# Altium schematic symbol library AMA4B_adapter_board.SCHLIB: 103 symbols (part 1 of 3)
Pins are listed as number, name and electrical type; pins without a type are passive.

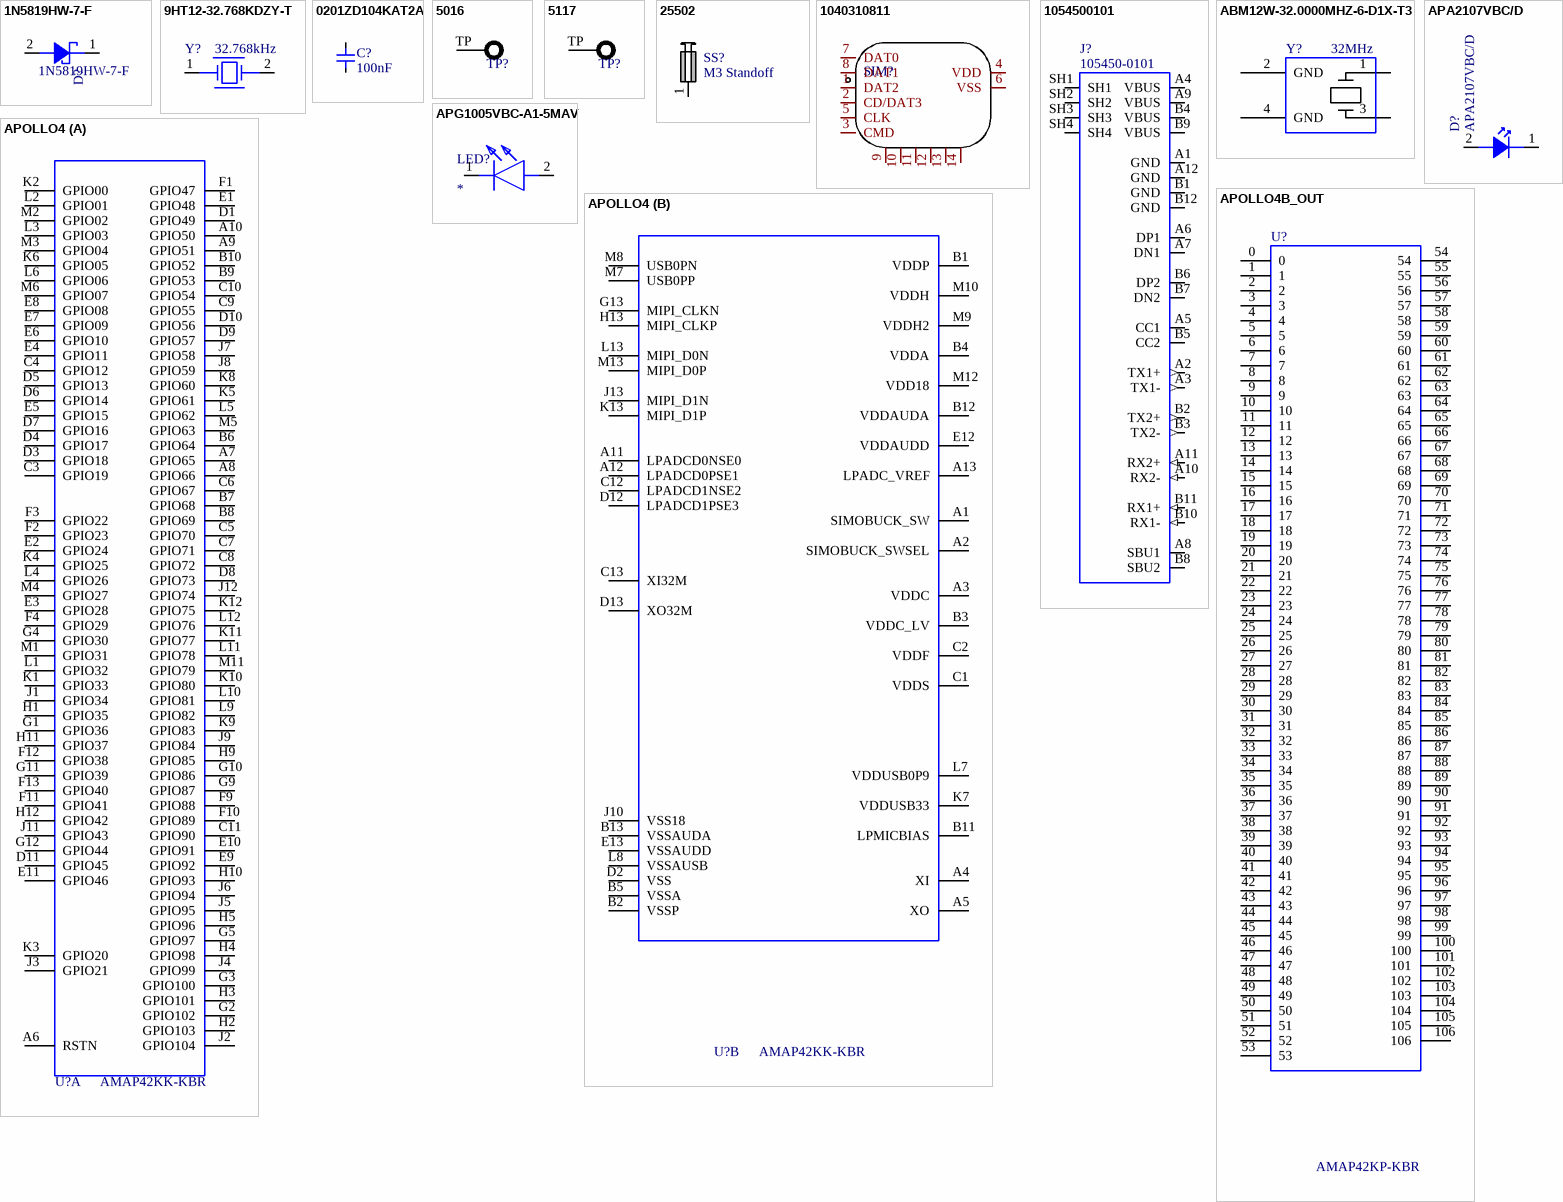
[diagram p0: symbols 1N5819HW-7-F to APOLLO4B_OUT]

## 1N5819HW-7-F
designator D?, comment AMBIQ PN: 1N5819HW-7-F  (hidden comment: Schottky)
None; Manufacturer: Diodes; Forward Current: 1A; Max Repetitive Reverse Voltage (Vrrm): 40V; Forward Voltage: 450mV; Max Reverse Current: 50uA; Element Configuration: Single; Max Forward Surge Current (Ifsm): 25A; Max Power Dissipation: 450mW; Polarity: Standard; Capacitance: 110pF; Supplier 1: RSComponents; Supplier Part Number 1: 7082197; Manufacturer Part Number: 1N5819HW-7-F; RoHS: Yes; Category: Schottky Diodes; Stock 1: 100; Pricing 1: 25=0.32800, 150=0.18600, 750=0.12400, 1500=0.09400 (GBP); Case/Package: SOD-123-2; Number of Pins: 2; Weight: 0.000353oz; Contact Plating: Tin,Matte; Min Operating Temperature: -65°C; Max Operating Temperature: 125°C; Packaging: Tape and Reel; Peak Non-Repetitive Surge Current: 25A; Package Quantity: 3000; Average Rectified Current: 1A; Termination: SMD/SMT; Voltage Rating (DC): 40V; Current Rating: 1A; Output Current: 1A; Max Reverse Voltage (DC): 40V; Series: -; Length: 2.85mm; Width: 1.7mm; Height: 1.25mm; Radiation Hardening: No; RoHS Compliant: Yes; REACH SVHC: No SVHC; Lead Free: Lead Free; ComponentLink1URL: https://datasheet.ciiva.com/27092/1538419-27092484.pdf?src-supplier=Jameco; ComponentLink1Description: https://datasheet.ciiva.com/27092/1538419-27092484.pdf?src-supplier=Jameco
footprint SOD123_112X67
pins: 1 C, 2 A

## 9HT12-32.768KDZY-T
designator Y?, comment 32.768kHz
NONE; Manufacturer: TXC; AMBIQ PN: 9HT12-32.768KDZY-T; Load Capacitance: 7pF; ESR (Equivalent Series Resistance): 90kR; Frequency Tolerance: 20ppm; Supplier 1: Newark; Supplier Part Number 1: 45AC5777; Manufacturer Part Number: 9HT12-32.768KDZY-T; RoHS: Yes; Category: Crystals; Stock 1: 2496; Pricing 1: 1=1.39000, 10=1.33000, 25=1.26000, 50=1.19000, 100=1.12000 (USD); Mount: Surface Mount; Case/Package: SMD/SMT; Min Operating Temperature: -40°C; Max Operating Temperature: 85°C; Packaging: Tape and Reel; Frequency: 32.768kHz; Length: 0.063inch; Width: 0.039inch; Height: 0.02inch; Lead Free: Lead Free; ComponentLink1URL: http://www.txccrystal.com/images/pdf/number-crystal-khz.pdf?src-supplier=Digi-Key; ComponentLink1Description: http://www.txccrystal.com/images/pdf/number-crystal-khz.pdf?src-supplier=Digi-Key; ComponentLink2URL: http://www.txccrystal.com/images/pdf/9ht12.pdf?src-supplier=Digi-Key; ComponentLink2Description: http://www.txccrystal.com/images/pdf/9ht12.pdf?src-supplier=Digi-Key
footprint XTAL2-1P6X1P0-SM
pins: 1, 2

## 0201ZD104KAT2A
designator C?, comment 100nF
NONE; Manufacturer: Kyocera AVX; AMBIQ PN: 0201ZD104KAT2A; Tolerance: 10%; Voltage Rating: 10V; Supplier 1: Arrow Electronics; Supplier Part Number 1: 0201ZD104KAT2A; Manufacturer Part Number: 0201ZD104KAT2A; RoHS: Yes; Category: Ceramic Capacitors; Stock 1: 105000; Pricing 1: 15000=0.00770, 30000=0.00750, 45000=0.00740, 60000=0.00720, 75000=0.00690, 150000=0.00620 (USD); Mount: Surface Mount; Case/Package: 0201; Case Code (Metric): 0603; Case Code (Imperial): 0201; Min Operating Temperature: -55°C; Max Operating Temperature: 85°C; Capacitance: 100nF; Packaging: Tape and Reel; Voltage Rating (DC): 10V; Series: -; Lead Free: Lead Free; RoHS Compliant: Yes; ComponentLink1URL: http://www.mouser.com/ds/2/40/cx5r-776519.pdf?src-supplier=Mouser; ComponentLink1Description: http://www.mouser.com/ds/2/40/cx5r-776519.pdf?src-supplier=Mouser
footprint IPC_A
footprint IPC_B
footprint IPC_C
footprint MFG
pins: 1, 2

## 5016
designator TP?, comment HOOK  (value not drawn)
None; Manufacturer: Keystone Electronics; AMBIQ PN: 5016; Number of Ports: 1; Supplier 1: Newark; Supplier Part Number 1: 57J1845; Manufacturer Part Number: 5016; RoHS: Yes; Category: Connectors; Stock 1: 35000; Pricing 1: 1=0.15400, 1000=0.15300, 2000=0.14700, 4000=0.14100, 6000=0.13500 (USD); Mount: Surface Mount; Material: Bronze,Silver; Package Quantity: 1; Series: -; ComponentLink1URL: https://datasheet.ciiva.com/6737/5016-6737476.pdf?src-supplier=Newark; ComponentLink1Description: https://datasheet.ciiva.com/6737/5016-6737476.pdf?src-supplier=Newark; Contact Material: Bronze; Contact Plating: Silver; Color: White; Insulation Material: Polycarbonate; Packaging: Tape and Reel; Termination: Solder; Orientation: Straight; Length: 3.81mm; Height: 0.09inch; Depth: 2.48mm; RoHS Compliant: Yes; REACH SVHC: No SVHC; Lead Free: Lead Free; ComponentLink2URL: https://datasheet.ciiva.com/4598/m60p61-29490-4598593.pdf?src-supplier=Mouser; ComponentLink2Description: https://datasheet.ciiva.com/4598/m60p61-29490-4598593.pdf?src-supplier=Mouser; ComponentLink3URL: https://datasheet.ciiva.com/16311/m60-2p61-16311518.pdf?src-supplier=Future+Electronics; ComponentLink3Description: https://datasheet.ciiva.com/16311/m60-2p61-16311518.pdf?src-supplier=Future+Electronics; ComponentLink4URL: https://datasheet.ciiva.com/16884/70182998-16884102.pdf?src-supplier=Allied+Electronics; ComponentLink4Description: https://datasheet.ciiva.com/16884/70182998-16884102.pdf?src-supplier=Allied+Electronics; ComponentLink5URL: https://datasheet.ciiva.com/2917/5016-2917611.pdf?src-supplier=Digi-Key; ComponentLink5Description: https://datasheet.ciiva.com/2917/5016-2917611.pdf?src-supplier=Digi-Key; ComponentLink6URL: https://datasheet.ciiva.com/2917/5016-2917612.pdf?src-supplier=Digi-Key; ComponentLink6Description: https://datasheet.ciiva.com/2917/5016-2917612.pdf?src-supplier=Digi-Key; ComponentLink7URL: https://datasheet.ciiva.com/2917/5016-2917613.pdf?src-supplier=Digi-Key; ComponentLink7Description: https://datasheet.ciiva.com/2917/5016-2917613.pdf?src-supplier=Digi-Key
footprint TP5016_4.7x3.43
pins: TP

## 5117
designator TP?, comment Blue Ring  (value not drawn)
None; Manufacturer: Keystone Electronics; AMBIQ PN: 5117; Body Material: PBT; Supplier 1: Newark; Supplier Part Number 1: 95M2479; Manufacturer Part Number: 5117; RoHS: Yes; Category: Uncategorized; Stock 1: 8464; Pricing 1: 1=0.37200, 10=0.35700, 100=0.26000, 500=0.22900, 1000=0.19700, 2500=0.18400, 10000=0.15500 (USD); Mount: Through Hole,PCB; Material: Nylon,Bronze; Package Quantity: 100; Series: THM; ComponentLink1URL: https://datasheet.ciiva.com/2917/m60-2p60-2917660.pdf?src-supplier=Digi-Key; ComponentLink1Description: https://datasheet.ciiva.com/2917/m60-2p60-2917660.pdf?src-supplier=Digi-Key; Contact Material: Bronze; Contact Plating: Silver; Color: Blue; Packaging: Bulk; Height: 0.3inch; RoHS Compliant: Yes; REACH SVHC: No SVHC; Lead Free: Lead Free; ComponentLink2URL: https://datasheet.ciiva.com/16886/70182825-16886140.pdf?src-supplier=Allied+Electronics; ComponentLink2Description: https://datasheet.ciiva.com/16886/70182825-16886140.pdf?src-supplier=Allied+Electronics; Flammability Rating: UL94 V-0; Number of Pins: 1
footprint 5117
pins: TP

## 25502
designator SS?, comment M3 Standoff
None; Manufacturer: Keystone Electronics; AMBIQ PN: 25502; Gender: Male, Female; Threaded/Unthreaded: Threaded; Outside Diameter: 0.217inch; Supplier 1: Future Electronics; Supplier Part Number 1: 5068490; Manufacturer Part Number: 25502; RoHS: Yes; Category: Spacers, Standoffs; Stock 1: 439; Pricing 1: 100=0.38000, 400=0.32500, 1500=0.31500, 2500=0.31000, 5000=0.30500 (USD); Material: Nylon; Package Quantity: 100; Series: -; Thread Size: M3; ComponentLink1URL: http://www.keyelco.com/pdfs/M60/M60p72.pdf?src-supplier=Digi-Key; ComponentLink1Description: http://www.keyelco.com/pdfs/M60/M60p72.pdf?src-supplier=Digi-Key; Color: Natural; Length: 0.787inch; Lead Free: Lead Free; ComponentLink2URL: http://www.keyelco.com/product-pdf.cfm?p=4539&src-supplier=Digi-Key; ComponentLink2Description: http://www.keyelco.com/product-pdf.cfm?p=4539&src-supplier=Digi-Key; ComponentLink3URL: http://www.keyelco.com/product.cfm/M3-x-5-0mm-Metric-Thread/25502/product_id/4540?src-supplier=Mouser; ComponentLink3Description: http://www.keyelco.com/product.cfm/M3-x-5-0mm-Metric-Thread/25502/product_id/4540?src-supplier=Mouser; Size: 0.197inch
footprint 25502
pins: 1

## 1040310811
designator SIM?  (value not drawn)
Manufacturer: MOLEX; Add into BOM: yes; Card Connection Mode: 拔插式; Card Type: MicroSD卡(TF卡); Connector Type: 卡座; Maximum Body Height: 1.42mm; Name: 1040310811; Symbol: 1040310811; Device: 1040310811; LCSC Part Name: 拔插式 MicroSD卡(TF卡) 卡座; Supplier Part: C585350; Manufacturer Part: 1040310811; Supplier Footprint: SMD; JLCPCB Part Class: 扩展库; Datasheet: https://atta.szlcsc.com/upload/public/pdf/source/20201117/C585350_D1F0B30BD23514449186B2E50ACE8BBF.pdf; Supplier: LCSC; Convert to PCB: yes; Operating Temperature Range: -
footprint SIM-SMD_8P-1040310811
pins: 1 DAT2, 2 CD/DAT3, 3 CMD, 4 VDD, 5 CLK, 6 VSS, 7 DAT0, 8 DAT1, 9, 10, 11, 12, 13, 14

## 1054500101
designator J?, comment 105450-0101
NONE; Manufacturer: Molex; AMBIQ PN: 1054500101; Number of Terminals/Pins: 24; Connector Type: USB; Gender: Receptacle; Number of Ports: 1; USB Standard: USB 3.1; Current Rating: 5A; Mating Cycles: 10000; Shielding: Shielded; Pitch: 0.5mm; Supplier 1: Arrow Electronics; Supplier Part Number 1: 105450-0101; Manufacturer Part Number: 105450-0101; RoHS: Yes; Category: USB Connectors; Stock 1: 534; Pricing 1: 1=2.15670, 10=1.78070, 25=1.76290, 100=1.52500, 250=1.50710, 500=1.41880 (USD); Mount: Surface Mount,Through Hole,Horizontal; Case/Package: 0101; Number of Pins: 24; Contact Material: Copper Alloy; Contact Plating: Gold; Housing Material: Thermoplastic; Insulation Color: Black; Min Operating Temperature: -30°C; Max Operating Temperature: 85°C; Packaging: Tape and Reel; Number of Contacts: 24; Orientation: Right Angle; Termination: Solder; Features: Shielded; Length: 8.94mm; REACH SVHC: Unknown; Flammability Rating: UL94 V-0; RoHS Compliant: Yes; ComponentLink1URL: http://www.farnell.com/datasheets/2801634.pdf?src-supplier=Farnell; ComponentLink1Description: http://www.farnell.com/datasheets/2801634.pdf?src-supplier=Farnell
footprint CON24_C_USB_RA_TH
pins: A1 GND (power), A2 TX1+ (out), A3 TX1- (out), A4 VBUS (power), A5 CC1, A6 DP1 (io), A7 DN1 (io), A8 SBU1, A9 VBUS (power), A10 RX2- (in), A11 RX2+ (in), A12 GND (power), B1 GND (power), B2 TX2+ (out), B3 TX2- (out), B4 VBUS (power), B5 CC2, B6 DP2 (io), B7 DN2 (io), B8 SBU2, B9 VBUS (power), B10 RX1- (in), B11 RX1+ (in), B12 GND (power), SH1 (power), SH2 (power), SH3 (power), SH4 (power)

## ABM12W-32.0000MHZ-6-D1X-T3
designator Y?, comment 32MHz
NONE; Manufacturer: Abracon; AMBIQ PN: ABM12W-32.0000MHZ-6-D1X-T3; Load Capacitance: 6pF; ESR (Equivalent Series Resistance): 100R; Frequency Tolerance: 10ppm; Frequency Stability: 20ppm; Supplier 1: Mouser; Supplier Part Number 1: 815-12W32-6D1XT; Manufacturer Part Number: ABM12W-32.0000MHZ-6-D1X-T3; RoHS: Yes; Category: Crystals; Stock 1: 2341; Pricing 1: 1=0.99000, 10=0.88400, 50=0.88400, 100=0.73000, 1000=0.57600, 10000=0.53700 (USD); Mount: Surface Mount; Case/Package: SMD/SMT; Min Operating Temperature: -40°C; Max Operating Temperature: 85°C; Packaging: Tape and Reel; Frequency: 32MHz; ComponentLink1URL: https://abracon.com/Resonators/ABM12W.pdf?src-supplier=Digi-Key; ComponentLink1Description: https://abracon.com/Resonators/ABM12W.pdf?src-supplier=Digi-Key; RoHS Compliant: Yes
footprint XOSC_ABM12W_1.2x1.6
pins: 1, 2 GND, 3, 4 GND

## APA2107VBC/D
designator D?
None; Manufacturer: Kingbright; Forward Voltage: 3.3V; Color: Blue; Lens Color: Colorless; Luminous Intensity: 200mcd; Viewing Angle: 120°; Lens Style: Domed; Lens Transparency: Clear; Test Current: 20mA; Dominant Wavelength: 470nm; Lens Size: 0.6mm; AMBIQ PN: APA2107VBC/D; Supplier 1: Digi-Key; Supplier Part Number 1: 754-2102-1-ND; Manufacturer Part Number: APA2107VBC/D; RoHS: Yes; Category: LEDs; Stock 1: 6712; Pricing 1: 1=0.61000, 10=0.37500, 100=0.21560, 1000=0.16871 (USD); Case/Package: SMD/SMT; Packaging: Tape and Reel; Length: 2.1mm; Width: 1mm; Height: 0.7mm; RoHS Compliant: Yes; ComponentLink1URL: http://www.kingbrightusa.com/images/catalog/SPEC/APA2107VBC-D.pdf?src-supplier=Digi-Key; ComponentLink1Description: http://www.kingbrightusa.com/images/catalog/SPEC/APA2107VBC-D.pdf?src-supplier=Digi-Key; Mount: Surface Mount
footprint 2106_LED_RA
pins: 1 C, 2 A

## APG1005VBC-A1-5MAV
designator LED?
LED; Manufacturer_Name: Kingbright; Manufacturer_Part_Number: APG1005VBC-A1-5MAV; Datasheet Link: https://www.kingbrightusa.com/images/catalog/SPEC/APG1005VBC-A1-5MAV.pdf; Height: 0.25mm; Mouser Part Number: 604-APG1005VBCA15MAV; Mouser Price/Stock: https://www.mouser.co.uk/ProductDetail/Kingbright/APG1005VBC-A1-5MAV?qs=Wj%2FVkw3K%252BMBzMdKeIeaEww%3D%3D
footprint APG1005VBCA15MAV
pins: 1 K, 2 A

## APOLLO4
designator U?, comment AMAP42KK-KBR
None; Manufacturer: AMBIQ; AMBIQ PN: APOLLO4; IC TYPE: MCU; Manufacturer Part Number: AMAP42KK-KBR; Category: Microcontrollers
footprint BGA146C35P13X12_390X430X350
part A pins: A6 RSTN, A7 GPIO65, A8 GPIO66, A9 GPIO51, A10 GPIO50, B6 GPIO64, B7 GPIO68, B8 GPIO69, B9 GPIO53, B10 GPIO52, C3 GPIO19, C4 GPIO12, C5 GPIO70, C6 GPIO67, C7 GPIO71, C8 GPIO72, C9 GPIO55, C10 GPIO54, C11 GPIO90, D1 GPIO49, D3 GPIO18, D4 GPIO17, D5 GPIO13, D6 GPIO14, D7 GPIO16, D8 GPIO73, D9 GPIO57, D10 GPIO56, D11 GPIO45, E1 GPIO48, E2 GPIO24, E3 GPIO28, E4 GPIO11, E5 GPIO15, E6 GPIO10, E7 GPIO09, E8 GPIO08, E9 GPIO92, E10 GPIO91, E11 GPIO46, F1 GPIO47, F2 GPIO23, F3 GPIO22, F4 GPIO29, F9 GPIO88, F10 GPIO89, F11 GPIO41, F12 GPIO38, F13 GPIO40, G1 GPIO36, G2 GPIO102, G3 GPIO100, G4 GPIO30, G5 GPIO97, G9 GPIO87, G10 GPIO86, G11 GPIO39, G12 GPIO44, H1 GPIO35, H2 GPIO103, H3 GPIO101, H4 GPIO98, H5 GPIO96, H9 GPIO85, H10 GPIO93, H11 GPIO37, H12 GPIO42, J1 GPIO34, J2 GPIO104, J3 GPIO21, J4 GPIO99, J5 GPIO95, J6 GPIO94, J7 GPIO58, J8 GPIO59, J9 GPIO84, J11 GPIO43, J12 GPIO74, K1 GPIO33, K2 GPIO00, K3 GPIO20, K4 GPIO25, K5 GPIO61, K6 GPIO05, K8 GPIO60, K9 GPIO83, K10 GPIO80, K11 GPIO77, K12 GPIO75, L1 GPIO32, L2 GPIO01, L3 GPIO03, L4 GPIO26, L5 GPIO62, L6 GPIO06, L9 GPIO82, L10 GPIO81, L11 GPIO78, L12 GPIO76, M1 GPIO31, M2 GPIO02, M3 GPIO04, M4 GPIO27, M5 GPIO63, M6 GPIO07, M11 GPIO79
part B pins: A1 SIMOBUCK_SW, A2 SIMOBUCK_SWSEL, A3 VDDC, A4 XI, A5 XO, A11 LPADCD0NSE0, A12 LPADCD0PSE1, A13 LPADC_VREF, B1 VDDP (power), B2 VSSP, B3 VDDC_LV, B4 VDDA, B5 VSSA, B11 LPMICBIAS, B12 VDDAUDA, B13 VSSAUDA, C1 VDDS, C2 VDDF, C12 LPADCD1NSE2, C13 XI32M, D2 VSS, D12 LPADCD1PSE3, D13 XO32M, E12 VDDAUDD, E13 VSSAUDD, G13 MIPI_CLKN, H13 MIPI_CLKP, J10 VSS18, J13 MIPI_D1N, K7 VDDUSB33, K13 MIPI_D1P, L7 VDDUSB0P9, L8 VSSAUSB, L13 MIPI_D0N, M7 USB0PP, M8 USB0PN, M9 VDDH2, M10 VDDH, M12 VDD18, M13 MIPI_D0P

## APOLLO4B_OUT
designator U?, comment AMAP42KP-KBR
None; AMBIQ PN: APOLLO4P; Category: Microcontrollers
footprint Apollo_4B
pins: 0, 1, 2, 3, 4, 5, 6, 7, 8, 9, 10, 11, 12, 13, 14, 15, 16, 17, 18, 19, 20, 21, 22, 23, 24, 25, 26, 27, 28, 29, 30, 31, 32, 33, 34, 35, 36, 37, 38, 39, 40, 41, 42, 43, 44, 45, 46, 47, 48, 49, 50, 51, 52, 53, 54, 55, 56, 57, 58, 59, 60, 61, 62, 63, 64, 65, 66, 67, 68, 69, 70, 71, 72, 73, 74, 75, 76, 77, 78, 79, 80, 81, 82, 83, 84, 85, 86, 87, 88, 89, 90, 91, 92, 93, 94, 95, 96, 97, 98, 99, 100, 101, 102, 103, 104, 105, 106

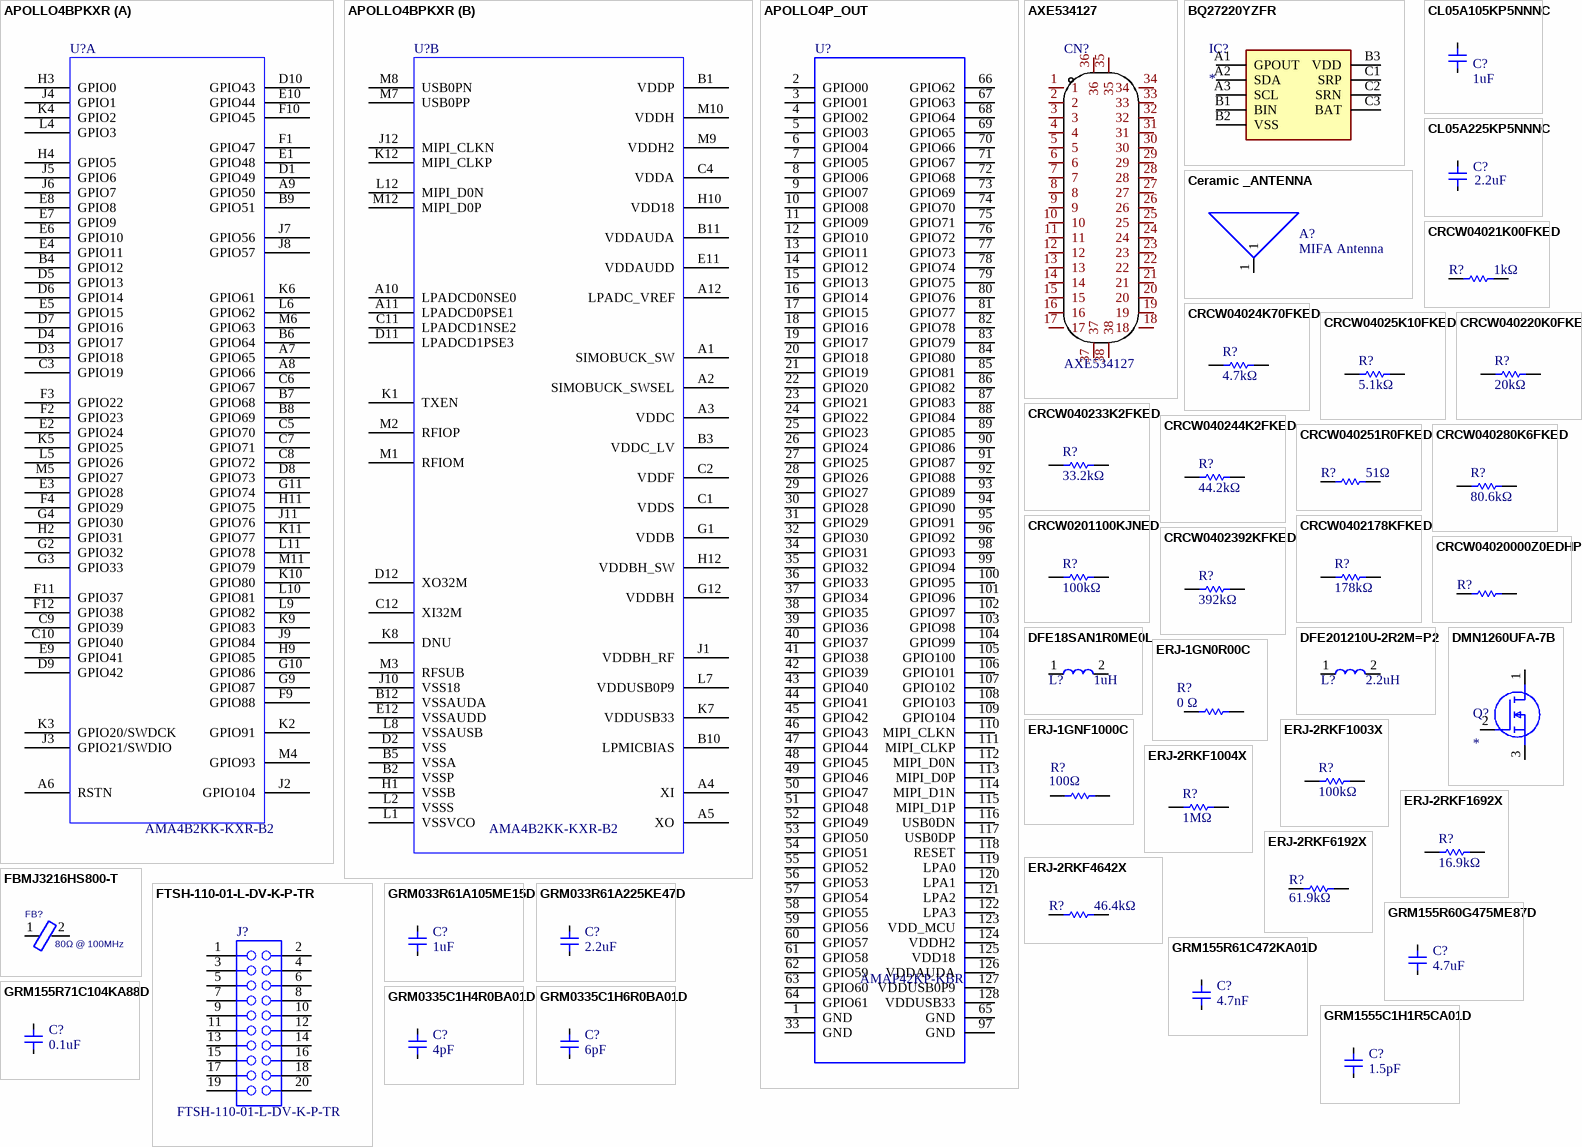
[diagram p1: symbols APOLLO4BPKXR to GRM1555C1H1R5CA01D]

## APOLLO4BPKXR
designator U?, comment AMA4B2KK-KXR-B2
None; Manufacturer: AMBIQ; AMBIQ PN: APOLLO4BPKXR; IC TYPE: MCU; Manufacturer Part Number: AMA4B2KK-KXR-B2; Category: Microcontrollers
footprint BGA131_0P35_4P7X4P7
part A pins: A6 RSTN, A7 GPIO65, A8 GPIO66, A9 GPIO50, B4 GPIO12, B6 GPIO64, B7 GPIO68, B8 GPIO69, B9 GPIO51, C3 GPIO19, C5 GPIO70, C6 GPIO67, C7 GPIO71, C8 GPIO72, C9 GPIO39, C10 GPIO40, D1 GPIO49, D3 GPIO18, D4 GPIO17, D5 GPIO13, D6 GPIO14, D7 GPIO16, D8 GPIO73, D9 GPIO42, D10 GPIO43, E1 GPIO48, E2 GPIO24, E3 GPIO28, E4 GPIO11, E5 GPIO15, E6 GPIO10, E7 GPIO9, E8 GPIO8, E9 GPIO41, E10 GPIO44, F1 GPIO47, F2 GPIO23, F3 GPIO22, F4 GPIO29, F9 GPIO88, F10 GPIO45, F11 GPIO37, F12 GPIO38, G2 GPIO32, G3 GPIO33, G4 GPIO30, G9 GPIO87, G10 GPIO86, G11 GPIO74, H2 GPIO31, H3 GPIO0, H4 GPIO5, H9 GPIO85, H11 GPIO75, J2 GPIO104, J3 GPIO21/SWDIO, J4 GPIO1, J5 GPIO6, J6 GPIO7, J7 GPIO56, J8 GPIO57, J9 GPIO84, J11 GPIO76, K2 GPIO91, K3 GPIO20/SWDCK, K4 GPIO2, K5 GPIO25, K6 GPIO61, K9 GPIO83, K10 GPIO80, K11 GPIO77, L4 GPIO3, L5 GPIO26, L6 GPIO62, L9 GPIO82, L10 GPIO81, L11 GPIO78, M4 GPIO93, M5 GPIO27, M6 GPIO63, M11 GPIO79
part B pins: A1 SIMOBUCK_SW, A2 SIMOBUCK_SWSEL, A3 VDDC, A4 XI, A5 XO, A10 LPADCD0NSE0, A11 LPADCD0PSE1, A12 LPADC_VREF, B1 VDDP, B2 VSSP, B3 VDDC_LV, B5 VSSA, B10 LPMICBIAS, B11 VDDAUDA, B12 VSSAUDA, C1 VDDS, C2 VDDF, C4 VDDA, C11 LPADCD1NSE2, C12 XI32M, D2 VSS, D11 LPADCD1PSE3, D12 XO32M, E11 VDDAUDD, E12 VSSAUDD, G1 VDDB, G12 VDDBH, H1 VSSB, H10 VDD18, H12 VDDBH_SW, J1 VDDBH_RF, J10 VSS18, J12 MIPI_CLKN, K1 TXEN, K7 VDDUSB33, K8 DNU, K12 MIPI_CLKP, L1 VSSVCO, L2 VSSS, L7 VDDUSB0P9, L8 VSSAUSB, L12 MIPI_D0N, M1 RFIOM, M2 RFIOP, M3 RFSUB, M7 USB0PP, M8 USB0PN, M9 VDDH2, M10 VDDH, M12 MIPI_D0P

## APOLLO4P_OUT
designator U?, comment AMAP42KP-KBR
None; AMBIQ PN: APOLLO4P; Category: Microcontrollers
footprint Apollo_4P
pins: 1 GND, 2 GPIO00, 3 GPIO01, 4 GPIO02, 5 GPIO03, 6 GPIO04, 7 GPIO05, 8 GPIO06, 9 GPIO07, 10 GPIO08, 11 GPIO09, 12 GPIO10, 13 GPIO11, 14 GPIO12, 15 GPIO13, 16 GPIO14, 17 GPIO15, 18 GPIO16, 19 GPIO17, 20 GPIO18, 21 GPIO19, 22 GPIO20, 23 GPIO21, 24 GPIO22, 25 GPIO23, 26 GPIO24, 27 GPIO25, 28 GPIO26, 29 GPIO27, 30 GPIO28, 31 GPIO29, 32 GPIO30, 33 GND, 34 GPIO31, 35 GPIO32, 36 GPIO33, 37 GPIO34, 38 GPIO35, 39 GPIO36, 40 GPIO37, 41 GPIO38, 42 GPIO39, 43 GPIO40, 44 GPIO41, 45 GPIO42, 46 GPIO43, 47 GPIO44, 48 GPIO45, 49 GPIO46, 50 GPIO47, 51 GPIO48, 52 GPIO49, 53 GPIO50, 54 GPIO51, 55 GPIO52, 56 GPIO53, 57 GPIO54, 58 GPIO55, 59 GPIO56, 60 GPIO57, 61 GPIO58, 62 GPIO59, 63 GPIO60, 64 GPIO61, 65 GND, 66 GPIO62, 67 GPIO63, 68 GPIO64, 69 GPIO65, 70 GPIO66, 71 GPIO67, 72 GPIO68, 73 GPIO69, 74 GPIO70, 75 GPIO71, 76 GPIO72, 77 GPIO73, 78 GPIO74, 79 GPIO75, 80 GPIO76, 81 GPIO77, 82 GPIO78, 83 GPIO79, 84 GPIO80, 85 GPIO81, 86 GPIO82, 87 GPIO83, 88 GPIO84, 89 GPIO85, 90 GPIO86, 91 GPIO87, 92 GPIO88, 93 GPIO89, 94 GPIO90, 95 GPIO91, 96 GPIO92, 97 GND, 98 GPIO93, 99 GPIO94, 100 GPIO95, 101 GPIO96, 102 GPIO97, 103 GPIO98, 104 GPIO99, 105 GPIO100, 106 GPIO101, 107 GPIO102, 108 GPIO103, 109 GPIO104, 110 MIPI_CLKN, 111 MIPI_CLKP, 112 MIPI_D0N, 113 MIPI_D0P, 114 MIPI_D1N, 115 MIPI_D1P, 116 USB0DN, 117 USB0DP, 118 RESET, 119 LPA0, 120 LPA1, 121 LPA2, 122 LPA3, 123 VDD_MCU, 124 VDDH2, 125 VDD18, 126 VDDAUDA, 127 VDDUSB0P9, 128 VDDUSB33

## AXE534127
designator CN?
Add into BOM: yes; Symbol: AXE534127; Device: AXE534127; LCSC Part Name: AXE534127; Supplier Part: C9900017244; Manufacturer Part: AXE534127; Supplier Footprint: SMD-34; JLCPCB Part Class: 扩展库; Datasheet: https://atta.szlcsc.comnull; Supplier: LCSC; Convert to PCB: yes; Name: AXE534127
footprint CONN-SMD_34P-P0.40_AXE534127
pins: 1, 2, 3, 4, 5, 6, 7, 8, 9, 10, 11, 12, 13, 14, 15, 16, 17, 18, 19, 20, 21, 22, 23, 24, 25, 26, 27, 28, 29, 30, 31, 32, 33, 34, 35, 36, 37, 38

## BQ27220YZFR
designator IC?
Integrated Circuit; Manufacturer_Name: Texas Instruments; Manufacturer_Part_Number: BQ27220YZFR; Datasheet Link: http://www.ti.com/lit/ds/symlink/bq27220.pdf; Height: 0.625mm; Mouser Part Number: 595-BQ27220YZFR; Mouser Price/Stock: https://www.mouser.co.uk/ProductDetail/Texas-Instruments/BQ27220YZFR?qs=dSktwyqbRaX%252B5G1xe9oNWw%3D%3D; Arrow Part Number: BQ27220YZFR; Arrow Price/Stock: https://www.arrow.com/en/products/bq27220yzfr/texas-instruments?region=nac
footprint BGA9C50P3X3_158X162X62
pins: A1 GPOUT, A2 SDA, A3 SCL, B1 BIN, B2 VSS, B3 VDD, C1 SRP, C2 SRN, C3 BAT

## Ceramic _ANTENNA
designator A?, comment MIFA Antenna  (no BOM)
None; AMBIQ PN: PCB_ANTENNA
footprint ANT-2.4GHZ-8.0X1.0MM
pins: 1

## CL05A105KP5NNNC
designator C?, comment 1uF
NONE; Manufacturer: Samsung; Manufacturer Part Number: CL05A105MP5NNNC; AMBIQ PN: CL05A105KP5NNNC; Tolerance: 20%; Voltage Rating: 10V; Dielectric: X5R; Supplier 1: Newark; Supplier Part Number 1: 82AC9184; RoHS: Yes; Category: Ceramic Capacitors; Mount: Surface Mount; Case/Package: 0402; Case Code (Metric): 1005; Case Code (Imperial): 0402; Min Operating Temperature: -55°C; Max Operating Temperature: 85°C; Capacitance: 1uF; Packaging: Tape and Reel; Voltage Rating (DC): 10V; Series: CL; Construction: Flat; Length: 1mm; Width: 0.02inch; Height: 0.5mm; Thickness: 0.022inch; Depth: 0.5mm; Radiation Hardening: No; Lead Free: Lead Free; RoHS Compliant: Yes; ComponentLink1URL: https://datasheet.ciiva.com/25802/cl05a105mp5nnnc-25802049.pdf?src-supplier=Digi-Key; ComponentLink1Description: https://datasheet.ciiva.com/25802/cl05a105mp5nnnc-25802049.pdf?src-supplier=Digi-Key; Package Quantity: 1
footprint IPC_A
footprint IPC_B
footprint IPC_C
footprint MFG
pins: 1, 2

## CL05A225KP5NNNC
designator C?, comment 2.2uF
NONE; Manufacturer: Samsung; AMBIQ PN: CL05A225KP5NNNC; Tolerance: 10%; Voltage Rating: 10V; Supplier 1: Arrow Electronics; Supplier Part Number 1: CL05A225KP5NNNC; Manufacturer Part Number: CL05A225KP5NNNC; RoHS: Yes; Category: Ceramic Capacitors; Stock 1: 32414; Pricing 1: 1=0.14620, 10=0.09980, 25=0.09880, 100=0.05200, 250=0.05150, 500=0.03630, 1000=0.02990, 3000=0.02760, 6000=0.02610, 15000=0.023; Mount: Surface Mount; Case/Package: 0402; Case Code (Metric): 1005; Case Code (Imperial): 0402; Min Operating Temperature: -55°C; Max Operating Temperature: 85°C; Capacitance: 2.2uF; Packaging: Tape and Reel; Voltage Rating (DC): 10V; Series: CL; Length: 0.039inch; Width: 0.02inch; Thickness: 0.022inch; RoHS Compliant: Yes; ComponentLink1URL: https://datasheet.ciiva.com/25727/cl05a225kp5nnnc-25727777.pdf?src-supplier=Digi-Key; ComponentLink1Description: https://datasheet.ciiva.com/25727/cl05a225kp5nnnc-25727777.pdf?src-supplier=Digi-Key; Package Quantity: 1
footprint IPC_A
footprint IPC_B
footprint IPC_C
footprint MFG
pins: 1, 2

## CRCW04021K00FKED
designator R?, comment 1kΩ
Res Thick Film 0402 1K Ohm 1% 1/16W ±100ppm/°C Molded SMD Paper T/R; Manufacturer: Vishay Dale; AMBIQ PN: CRCW04021K00FKED; Resistance: 1kR; Power Rating: 63mW; Voltage Rating: 50V; Supplier 1: RSComponents; Supplier Part Number 1: 6788872; Manufacturer Part Number: CRCW04021K00FKED; RoHS: Yes; Category: Chip SMD Resistors; Stock 1: 9350; Pricing 1: 50=0.04800, 500=0.04400, 1000=0.04000, 2000=0.03500, 4000=0.03100 (GBP); Mount: Surface Mount; Case/Package: 0402; Weight: 2.3E-05oz; Case Code (Metric): 1005; Case Code (Imperial): 0402; Contact Plating: Tin; Size Code: 0402; Min Operating Temperature: -55°C; Max Operating Temperature: 155°C; Package Quantity: 10; Packaging: Tape and Reel; Resistor Type: Thick Film; Number of Terminations: 2; Termination: SMD/SMT; Max Power Dissipation: 63mW; Temperature Coefficient: 100ppm/°C; Voltage Rating (DC): 50V; Features: Automotive AEC-Q200; Series: CRCW; Technology: THICK FILM; Construction: Rectangular; Length: 1mm; Width: 0.5mm; Height: 0.35mm; Depth: 0.5mm; Radiation Hardening: No; REACH SVHC: Unknown; Military Standard: Not; Lead Free: Lead Free; RoHS Compliant: Yes; ComponentLink1URL: https://datasheet.ciiva.com/11808/0900766b80d98824-11808638.pdf; ComponentLink1Description: https://datasheet.ciiva.com/11808/0900766b80d98824-11808638.pdf; ComponentLink2URL: https://datasheet.ciiva.com/2463/dcrcwe3-2463028.pdf; ComponentLink2Description: https://datasheet.ciiva.com/2463/dcrcwe3-2463028.pdf; ComponentLink3URL: https://datasheet.ciiva.com/2463/dcrcwe3-2463029.pdf; Tolerance: 1%; Number of Pins: 2; Resistance Tolerance: 1%
footprint IPC_A
footprint IPC_B
footprint IPC_C
footprint MFG
pins: 1, 2
1 alternate drawing of the same symbol

## CRCW04024K70FKED
designator R?, comment 4.7kΩ
Res Thick Film 0402 4.7K Ohm 1% 1/16W ±100ppm/°C Molded SMD SMD Paper T/R; Manufacturer: Vishay; AMBIQ PN: CRCW04024K70FKED; Resistance: 4.7kR; Power Rating: 62.5mW; Voltage Rating: 50V; Max Power Dissipation: 63mW; Supplier 1: Future Electronics; Supplier Part Number 1: 7991789; Manufacturer Part Number: CRCW04024K70FKED; RoHS: Yes; Category: Chip SMD Resistors; Stock 1: 50000; Pricing 1: 10000=0.00740, 30000=0.00690, 50000=0.00660, 200000=0.00600, 300000=0.00590 (USD); Mount: Surface Mount; Case/Package: 0402; Weight: 2.3E-05oz; Case Code (Metric): 1005; Case Code (Imperial): 0402; Contact Plating: Tin; Min Operating Temperature: -55°C; Max Operating Temperature: 155°C; Package Quantity: 10000; Packaging: Cut Tape; Resistor Type: Thick Film; Number of Terminations: 2; Termination: SMD/SMT; Temperature Coefficient: 100ppm/°C; Voltage Rating (DC): 50V; Features: Automotive AEC-Q200; Series: D/CRCW E3; Technology: THICK FILM; Length: 1mm; Width: 0.5mm; Height: 0.35mm; Depth: 0.5mm; Radiation Hardening: No; REACH SVHC: Unknown; Military Standard: Not; Lead Free: Lead Free; RoHS Compliant: Yes; ComponentLink1URL: https://datasheet.ciiva.com/11808/0900766b80d98824-11808622.pdf; ComponentLink1Description: https://datasheet.ciiva.com/11808/0900766b80d98824-11808622.pdf; ComponentLink2URL: https://datasheet.ciiva.com/26316/fld-crcw-e3-data-en-26316654.pdf; ComponentLink2Description: https://datasheet.ciiva.com/26316/fld-crcw-e3-data-en-26316654.pdf; ComponentLink3URL: https://datasheet.ciiva.com/8079/1697337-8079643.pdf; Tolerance: 1%
footprint IPC_A
footprint IPC_B
footprint IPC_C
footprint MFG
pins: 1, 2
1 alternate drawing of the same symbol

## CRCW04025K10FKED
designator R?, comment 5.1kΩ
Res Thick Film 0402 5.1K Ohm 1% 1/16W ±100ppm/°C Molded SMD SMD Paper T/R; Manufacturer: Vishay; AMBIQ PN: CRCW04025K10FKED; Power Rating: 63mW; Voltage Rating: 50V; Supplier 1: RSComponents; Supplier Part Number 1: 6789478P; Manufacturer Part Number: CRCW04025K10FKED; RoHS: Yes; Category: Chip SMD Resistors; Stock 1: 1; Pricing 1: 50=0.06400, 500=0.05900, 1000=0.05300, 2000=0.04700, 4000=0.04100 (USD); Mount: Surface Mount; Case/Package: 0402; Weight: 2.3E-05oz; Case Code (Metric): 1005; Case Code (Imperial): 0402; Contact Plating: Tin; Size Code: 0402; Min Operating Temperature: -55°C; Max Operating Temperature: 155°C; Resistance: 5.1kΩ; Package Quantity: 10; Packaging: Tape and Reel; Resistor Type: Thick Film; Number of Terminations: 2; Termination: SMD/SMT; Max Power Dissipation: 63mW; Temperature Coefficient: 100ppm/°C; Voltage Rating (DC): 50V; Features: Automotive AEC-Q200; Series: CRCW; Technology: THICK FILM; Construction: Rectangular; Length: 1mm; Width: 0.02inch; Height: 0.35mm; Depth: 0.5mm; Radiation Hardening: No; REACH SVHC: Unknown; Military Standard: Not; Lead Free: Lead Free; RoHS Compliant: Yes; ComponentLink1URL: https://datasheet.ciiva.com/11809/0900766b80d98824-11809770.pdf?src-supplier=RSComponents; ComponentLink1Description: https://datasheet.ciiva.com/11809/0900766b80d98824-11809770.pdf?src-supplier=RSComponents; ComponentLink2URL: https://datasheet.ciiva.com/2464/dcrcwe3-2464033.pdf?src-supplier=Digi-Key; ComponentLink2Description: https://datasheet.ciiva.com/2464/dcrcwe3-2464033.pdf?src-supplier=Digi-Key; ComponentLink3URL: https://datasheet.ciiva.com/2464/dcrcwe3-2464034.pdf?src-supplier=Digi-Key; Tolerance: 1%; Resistance Tolerance: 1%; ComponentLink3Description: https://datasheet.ciiva.com/2464/dcrcwe3-2464034.p; ComponentLink4URL: https://datasheet.ciiva.com/2464/dcrcwe3-2464035.p; ComponentLink4Description: https://datasheet.ciiva.com/2464/dcrcwe3-2464035.p; ComponentLink5URL: https://datasheet.ciiva.com/3256/dcrcwe3-3256680.p; ComponentLink5Description: https://datasheet.ciiva.com/3256/dcrcwe3-3256680.p; ComponentLink6URL: https://datasheet.ciiva.com/7690/1697337-7690682.p; ComponentLink6Description: https://datasheet.ciiva.com/7690/1697337-7690682.p; ComponentLink7URL: https://datasheet.ciiva.com/7690/1697337-7690683.p; ComponentLink7Description: https://datasheet.ciiva.com/7690/1697337-7690683.p; ComponentLink8URL: https://datasheet.ciiva.com/22675/1847332-22675086; ComponentLink8Description: https://datasheet.ciiva.com/22675/1847332-22675086; ComponentLink9URL: https://datasheet.ciiva.com/7172/1635184-7172981.p; ComponentLink9Description: https://datasheet.ciiva.com/7172/1635184-7172981.p
footprint IPC_A
footprint IPC_B
footprint IPC_C
footprint MFG
pins: 1, 2
1 alternate drawing of the same symbol

## CRCW040220K0FKED
designator R?, comment 20kΩ
Res Thick Film 0402 20K Ohm 1% 1/16W ±100ppm/°C Molded SMD Paper T/R; Manufacturer: Vishay; AMBIQ PN: CRCW040220K0FKED; Resistance: 20kR; Power Rating: 63mW; Voltage Rating: 50V; Supplier 1: Newark; Supplier Part Number 1: 24W2083; Manufacturer Part Number: CRCW040220K0FKED; RoHS: Yes; Category: Chip SMD Resistors; Stock 1: 380000; Pricing 1: 1=0.00600, 10000=0.00600 (USD); Mount: Surface Mount; Case/Package: 0402; Weight: 2.3E-05oz; Case Code (Metric): 1005; Case Code (Imperial): 0402; Contact Plating: Tin; Min Operating Temperature: -55°C; Max Operating Temperature: 155°C; Package Quantity: 10; Packaging: Tape and Reel; Resistor Type: Thick Film; Number of Terminations: 2; Termination: SMD/SMT; Max Power Dissipation: 63mW; Temperature Coefficient: 100ppm/°C; Voltage Rating (DC): 50V; Features: Automotive AEC-Q200; Series: CRCW; Technology: THICK FILM; Construction: Rectangular; Length: 1mm; Width: 0.5mm; Height: 0.35mm; Depth: 0.5mm; Radiation Hardening: No; REACH SVHC: Unknown; Military Standard: Not; Lead Free: Lead Free; RoHS Compliant: Yes; ComponentLink1URL: https://datasheet.ciiva.com/11810/0900766b80d98824-11810023.pdf?src-supplier=RSComponents; ComponentLink1Description: https://datasheet.ciiva.com/11810/0900766b80d98824-11810023.pdf?src-supplier=RSComponents; ComponentLink2URL: https://datasheet.ciiva.com/2463/dcrcwe3-2463139.pdf?src-supplier=Digi-Key; ComponentLink2Description: https://datasheet.ciiva.com/2463/dcrcwe3-2463139.pdf?src-supplier=Digi-Key; ComponentLink3URL: https://datasheet.ciiva.com/2463/dcrcwe3-2463140.pdf?src-supplier=Digi-Key; Tolerance: 1%; Number of Pins: 2; Resistance Tolerance: 1%; Working Voltage: 50V
footprint IPC_A
footprint IPC_B
footprint IPC_C
footprint MFG
pins: 1, 2
1 alternate drawing of the same symbol

## CRCW040233K2FKED
designator R?, comment 33.2kΩ
Res Thick Film 0402 33.2K Ohm 1% 1/16W ±100ppm/°C Molded SMD Paper T/R; Manufacturer: Vishay; AMBIQ PN: CRCW040233K2FKED; Resistance: 33.2kR; Power Rating: 63mW; Voltage Rating: 50V; Supplier 1: Newark; Supplier Part Number 1: 42K3471; Manufacturer Part Number: CRCW040233K2FKED; RoHS: Yes; Category: Chip SMD Resistors; Stock 1: 10000; Pricing 1: 1=0.00600, 10000=0.00600 (USD); Mount: Surface Mount; Case/Package: 0402; Weight: 2.3E-05oz; Case Code (Metric): 1005; Case Code (Imperial): 0402; Contact Plating: Tin; Size Code: 0402; Min Operating Temperature: -55°C; Max Operating Temperature: 155°C; Package Quantity: 10; Packaging: Tape and Reel; Resistor Type: Thick Film; Number of Terminations: 2; Termination: SMD/SMT; Max Power Dissipation: 63mW; Temperature Coefficient: 100ppm/°C; Voltage Rating (DC): 50V; Features: Automotive AEC-Q200; Series: CRCW; Technology: THICK FILM; Construction: Rectangular; Length: 1mm; Width: 0.5mm; Height: 0.35mm; Depth: 0.5mm; Radiation Hardening: No; REACH SVHC: Unknown; Military Standard: Not; Lead Free: Lead Free; RoHS Compliant: Yes; ComponentLink1URL: https://datasheet.ciiva.com/11818/0900766b80d98824-11818039.pdf?src-supplier=RSComponents; ComponentLink1Description: https://datasheet.ciiva.com/11818/0900766b80d98824-11818039.pdf?src-supplier=RSComponents; ComponentLink2URL: https://datasheet.ciiva.com/3256/dcrcwe3-3256415.pdf?src-supplier=Avnet; ComponentLink2Description: https://datasheet.ciiva.com/3256/dcrcwe3-3256415.pdf?src-supplier=Avnet; ComponentLink3URL: https://datasheet.ciiva.com/2463/dcrcwe3-2463142.pdf?src-supplier=Digi-Key; Tolerance: 1%; Number of Pins: 2; Resistance Tolerance: 1%
footprint IPC_A
footprint IPC_B
footprint IPC_C
footprint MFG
pins: 1, 2
1 alternate drawing of the same symbol

## CRCW040244K2FKED
designator R?, comment 44.2kΩ
Res Thick Film 0402 44.2K Ohm 1% 1/16W ±100ppm/°C Molded SMD SMD Paper T/R; Manufacturer: Vishay; AMBIQ PN: CRCW040244K2FKED; Resistance: 44.2kR; Power Rating: 63mW; Voltage Rating: 50V; Supplier 1: RSComponents; Supplier Part Number 1: 6789336; Manufacturer Part Number: CRCW040244K2FKED; RoHS: Yes; Category: Chip SMD Resistors; Stock 1: 1300; Pricing 1: 50=0.05000, 500=0.04600, 1000=0.04300, 2000=0.04000, 4000=0.03700 (GBP); Mount: Surface Mount; Case/Package: 0402; Weight: 2.3E-05oz; Case Code (Metric): 1005; Case Code (Imperial): 0402; Contact Plating: Tin; Size Code: 0402; Min Operating Temperature: -55°C; Max Operating Temperature: 155°C; Package Quantity: 10; Packaging: Tape and Reel; Resistor Type: Thick Film; Number of Terminations: 2; Termination: SMD/SMT; Max Power Dissipation: 63mW; Temperature Coefficient: 100ppm/°C; Voltage Rating (DC): 50V; Features: Automotive AEC-Q200; Series: CRCW; Technology: THICK FILM; Construction: Rectangular; Length: 1mm; Width: 0.5mm; Height: 0.35mm; Depth: 0.5mm; Radiation Hardening: No; REACH SVHC: Unknown; Military Standard: Not; Lead Free: Lead Free; RoHS Compliant: Yes; ComponentLink1URL: https://datasheet.ciiva.com/11809/0900766b80d98824-11809017.pdf?src-supplier=RSComponents; ComponentLink1Description: https://datasheet.ciiva.com/11809/0900766b80d98824-11809017.pdf?src-supplier=RSComponents; ComponentLink2URL: https://datasheet.ciiva.com/2463/dcrcwe3-2463784.pdf?src-supplier=Digi-Key; ComponentLink2Description: https://datasheet.ciiva.com/2463/dcrcwe3-2463784.pdf?src-supplier=Digi-Key; ComponentLink3URL: https://datasheet.ciiva.com/3256/dcrcwe3-3256534.pdf?src-supplier=Avnet; Tolerance: 1%; Number of Pins: 2; Resistance Tolerance: 1%; ComponentLink3Description: https://datasheet.ciiva.com/3256/dcrcwe3-3256534.p; ComponentLink4URL: https://datasheet.ciiva.com/2463/dcrcwe3-2463785.p; ComponentLink4Description: https://datasheet.ciiva.com/2463/dcrcwe3-2463785.p; ComponentLink5URL: https://datasheet.ciiva.com/2463/dcrcwe3-2463786.p; ComponentLink5Description: https://datasheet.ciiva.com/2463/dcrcwe3-2463786.p; ComponentLink6URL: https://datasheet.ciiva.com/3256/dcrcwe3-3256533.p; ComponentLink6Description: https://datasheet.ciiva.com/3256/dcrcwe3-3256533.p; ComponentLink7URL: https://datasheet.ciiva.com/7671/1697337-7671605.p; ComponentLink7Description: https://datasheet.ciiva.com/7671/1697337-7671605.p; ComponentLink8URL: https://datasheet.ciiva.com/7671/1697337-7671606.p; ComponentLink8Description: https://datasheet.ciiva.com/7671/1697337-7671606.p; ComponentLink9URL: https://datasheet.ciiva.com/22870/70201119-2287034; ComponentLink9Description: https://datasheet.ciiva.com/22870/70201119-2287034; ComponentLink10URL: https://datasheet.ciiva.com/16768/70201119-1676858; ComponentLink10Description: https://datasheet.ciiva.com/16768/70201119-1676858
footprint IPC_A
footprint IPC_B
footprint IPC_C
footprint MFG
pins: 1, 2
1 alternate drawing of the same symbol

## CRCW040251R0FKED
designator R?, comment 51Ω
Res Thick Film 0402 51 Ohm 1% 1/16W ±100ppm/°C Molded SMD SMD Paper T/R; Manufacturer: Vishay; AMBIQ PN: CRCW040251R0FKED; Resistance: 51R; Power Rating: 63mW; Voltage Rating: 50V; Supplier 1: RSComponents; Supplier Part Number 1: 6789425P; Manufacturer Part Number: CRCW040251R0FKED; RoHS: Yes; Category: Chip SMD Resistors; Stock 1: 1; Pricing 1: 50=0.06300, 500=0.05800, 1000=0.05200, 2000=0.04700, 4000=0.04000 (USD); Case/Package: 0402; Weight: 2.3E-05oz; Case Code (Metric): 1005; Case Code (Imperial): 0402; Contact Plating: Tin; Size Code: 0402; Min Operating Temperature: -55°C; Max Operating Temperature: 155°C; Package Quantity: 10; Packaging: Tape and Reel; Resistor Type: Thick Film; Number of Terminations: 2; Termination: SMD/SMT; Max Power Dissipation: 63mW; Temperature Coefficient: 100ppm/°C; Voltage Rating (DC): 50V; Features: Automotive AEC-Q200; Series: CRCW; Technology: THICK FILM; Construction: Rectangular; Length: 1mm; Width: 0.5mm; Height: 0.35mm; Depth: 0.5mm; Radiation Hardening: No; REACH SVHC: Unknown; Military Standard: Not; Lead Free: Lead Free; RoHS Compliant: Yes; ComponentLink1URL: https://datasheet.ciiva.com/11811/0900766b80d98824-11811263.pdf?src-supplier=RSComponents; ComponentLink1Description: https://datasheet.ciiva.com/11811/0900766b80d98824-11811263.pdf?src-supplier=RSComponents; ComponentLink2URL: https://datasheet.ciiva.com/2463/dcrcwe3-2463385.pdf?src-supplier=Digi-Key; ComponentLink2Description: https://datasheet.ciiva.com/2463/dcrcwe3-2463385.pdf?src-supplier=Digi-Key; ComponentLink3URL: https://datasheet.ciiva.com/2463/dcrcwe3-2463386.pdf?src-supplier=Digi-Key; Tolerance: 1%; Number of Pins: 2; Resistance Tolerance: 1%; ComponentLink3Description: https://datasheet.ciiva.com/2463/dcrcwe3-2463386.p; ComponentLink4URL: https://datasheet.ciiva.com/2463/dcrcwe3-2463387.p; ComponentLink4Description: https://datasheet.ciiva.com/2463/dcrcwe3-2463387.p; ComponentLink5URL: https://datasheet.ciiva.com/3256/dcrcwe3-3256623.p; ComponentLink5Description: https://datasheet.ciiva.com/3256/dcrcwe3-3256623.p; ComponentLink6URL: https://datasheet.ciiva.com/16780/70201119-1678071; ComponentLink6Description: https://datasheet.ciiva.com/16780/70201119-1678071; ComponentLink7URL: https://datasheet.ciiva.com/22705/1697337-22705164; ComponentLink7Description: https://datasheet.ciiva.com/22705/1697337-22705164; ComponentLink8URL: https://datasheet.ciiva.com/22870/70201119-2287065; ComponentLink8Description: https://datasheet.ciiva.com/22870/70201119-2287065; ComponentLink9URL: https://datasheet.ciiva.com/7690/1697337-7690680.p; ComponentLink9Description: https://datasheet.ciiva.com/7690/1697337-7690680.p; ComponentLink10URL: https://datasheet.ciiva.com/7690/1697337-7690681.p; ComponentLink10Description: https://datasheet.ciiva.com/7690/1697337-7690681.p
footprint IPC_A
footprint IPC_B
footprint IPC_C
footprint MFG
pins: 1, 2
1 alternate drawing of the same symbol

## CRCW040280K6FKED
designator R?, comment 80.6kΩ
Res Thick Film 0402 80.6K Ohm 1% 1/16W ±100ppm/°C Molded SMD SMD Paper T/R; Manufacturer: Vishay; AMBIQ PN: CRCW040280K6FKED; Resistance: 80.6kR; Power Rating: 63mW; Voltage Rating: 50V; Supplier 1: Newark; Supplier Part Number 1: 52K7296; Manufacturer Part Number: CRCW040280K6FKED; RoHS: Yes; Category: Chip SMD Resistors; Stock 1: 9653; Pricing 1: 1=0.00500, 25=0.00500, 100=0.00500, 250=0.00500, 500=0.00500, 1000=0.00500 (USD); Case/Package: 0402; Weight: 2.3E-05oz; Case Code (Metric): 1005; Case Code (Imperial): 0402; Contact Plating: Tin; Size Code: 0402; Min Operating Temperature: -55°C; Max Operating Temperature: 155°C; Package Quantity: 10000; Packaging: Tape and Reel; Resistor Type: Thick Film; Number of Terminations: 2; Termination: SMD/SMT; Max Power Dissipation: 63mW; Temperature Coefficient: 100ppm/°C; Voltage Rating (DC): 50V; Features: Automotive AEC-Q200; Series: CRCW; Technology: THICK FILM; Construction: Rectangular; Length: 1mm; Width: 0.5mm; Height: 0.35mm; Depth: 0.5mm; Radiation Hardening: No; REACH SVHC: Unknown; Military Standard: Not; Lead Free: Lead Free; RoHS Compliant: Yes; ComponentLink1URL: https://datasheet.ciiva.com/7816/1697337-7816204.pdf?src-supplier=Element14; ComponentLink1Description: https://datasheet.ciiva.com/7816/1697337-7816204.pdf?src-supplier=Element14; ComponentLink2URL: https://datasheet.ciiva.com/16394/dcrcwe3-16394495.pdf?src-supplier=Future+Electronics; ComponentLink2Description: https://datasheet.ciiva.com/16394/dcrcwe3-16394495.pdf?src-supplier=Future+Electronics; ComponentLink3URL: https://datasheet.ciiva.com/15159/getdatasheetpartid-29248-15159276.pdf?src-supplier=Verical; Tolerance: 1%; Number of Pins: 2; Resistance Tolerance: 1%
footprint IPC_A
footprint IPC_B
footprint IPC_C
footprint MFG
pins: 1, 2
1 alternate drawing of the same symbol

## CRCW0201100KJNED
designator R?, comment 100kΩ
Res Thick Film 0201 100K Ohm 5% 1/20W ±200ppm/°C Molded SMD SMD Paper T/R; Manufacturer: Vishay Dale; AMBIQ PN: CRCW0201100KJNED; Resistance: 100kR; Power Rating: 50mW; Voltage Rating: 30V; Supplier 1: Arrow Electronics; Supplier Part Number 1: CRCW0201100KJNED; Manufacturer Part Number: CRCW0201100KJNED; RoHS: Yes; Category: Chip SMD Resistors; Stock 1: 9000; Pricing 1: 1=0.04320, 10=0.03110, 25=0.01910, 100=0.01380, 250=0.01370, 500=0.01360, 1000=0.00820, 3000=0.00460 (USD); Case/Package: 0201; Weight: 6E-06oz; Case Code (Metric): 0603; Case Code (Imperial): 0201; Contact Plating: Tin; Min Operating Temperature: -55°C; Max Operating Temperature: 155°C; Package Quantity: 1; Packaging: Tape and Reel; Resistor Type: Thick Film; Number of Terminations: 2; Max Power Dissipation: 50mW; Temperature Coefficient: 200ppm/°C; Voltage Rating (DC): 30V; Length: 0.6mm; Width: 0.3mm; Height: 0.011inch; Depth: 0.3mm; Radiation Hardening: No; REACH SVHC: Unknown; Military Standard: Not; Lead Free: Lead Free; RoHS Compliant: Yes; ComponentLink1URL: https://datasheet.ciiva.com/2498/crcw0201e3-2498780.pdf?src-supplier=Digi-Key; ComponentLink1Description: https://datasheet.ciiva.com/2498/crcw0201e3-2498780.pdf?src-supplier=Digi-Key; ComponentLink2URL: https://datasheet.ciiva.com/2498/crcw0201e3-2498781.pdf?src-supplier=Digi-Key; ComponentLink2Description: https://datasheet.ciiva.com/2498/crcw0201e3-2498781.pdf?src-supplier=Digi-Key; ComponentLink3URL: https://datasheet.ciiva.com/2498/crcw0201e3-2498779.pdf?src-supplier=Digi-Key; Tolerance: 5%; Number of Pins: 2
footprint IPC_A
footprint IPC_B
footprint IPC_C
footprint MFG
pins: 1, 2
1 alternate drawing of the same symbol

## CRCW0402178KFKED
designator R?, comment 178kΩ
Res Thick Film 0402 178K Ohm 1% 1/16W ±100ppm/°C Molded SMD SMD Paper T/R; Manufacturer: Vishay; AMBIQ PN: CRCW0402178KFKED; Resistance: 178kR; Power Rating: 63mW; Voltage Rating: 50V; Supplier 1: Mouser; Supplier Part Number 1: 71-CRCW0402-178K-E3; Manufacturer Part Number: CRCW0402178KFKED; RoHS: Yes; Category: Chip SMD Resistors; Stock 1: 9510; Pricing 1: 1=0.11000, 10=0.04200, 50=0.04200, 100=0.01700, 1000=0.00900, 2500=0.00800, 5000=0.00700, 10000=0.00500 (USD); Mount: Surface Mount; Case/Package: 0402; Weight: 2.3E-05oz; Case Code (Metric): 1005; Case Code (Imperial): 0402; Contact Plating: Tin; Min Operating Temperature: -55°C; Max Operating Temperature: 155°C; Package Quantity: 10; Packaging: Tape and Reel; Resistor Type: Thick Film; Number of Terminations: 2; Termination: SMD/SMT; Max Power Dissipation: 63mW; Temperature Coefficient: 100ppm/°C; Voltage Rating (DC): 50V; Features: Automotive AEC-Q200; Series: CRCW; Technology: THICK FILM; Construction: Rectangular; Length: 1mm; Width: 0.02inch; Height: 0.35mm; Depth: 0.5mm; Radiation Hardening: No; REACH SVHC: Unknown; Military Standard: Not; Lead Free: Lead Free; RoHS Compliant: Yes; ComponentLink1URL: https://datasheet.ciiva.com/11809/0900766b80d98824-11809658.pdf?src-supplier=RSComponents; ComponentLink1Description: https://datasheet.ciiva.com/11809/0900766b80d98824-11809658.pdf?src-supplier=RSComponents; ComponentLink2URL: https://datasheet.ciiva.com/6062/1697337-6062014.pdf?src-supplier=Farnell; ComponentLink2Description: https://datasheet.ciiva.com/6062/1697337-6062014.pdf?src-supplier=Farnell; ComponentLink3URL: https://datasheet.ciiva.com/3256/dcrcwe3-3256108.pdf?src-supplier=Avnet; Tolerance: 1%; Number of Pins: 2; Resistance Tolerance: 1%
footprint IPC_A
footprint IPC_B
footprint IPC_C
footprint MFG
pins: 1, 2
1 alternate drawing of the same symbol

## CRCW0402392KFKED
designator R?, comment 392kΩ
Res Thick Film 0402 392K Ohm 1% 1/16W ±100ppm/°C Molded SMD SMD Paper T/R; Manufacturer: Vishay; AMBIQ PN: CRCW0402392KFKED; Resistance: 392kR; Power Rating: 63mW; Voltage Rating: 50V; Supplier 1: Newark; Supplier Part Number 1: 52K7031; Manufacturer Part Number: CRCW0402392KFKED; RoHS: Yes; Category: Chip SMD Resistors; Stock 1: 12021; Pricing 1: 1=0.11000, 25=0.04200, 100=0.01800, 250=0.01700, 500=0.01500, 1000=0.00800 (USD); Mount: Surface Mount; Case/Package: 0402; Weight: 2.3E-05oz; Case Code (Metric): 1005; Case Code (Imperial): 0402; Contact Plating: Tin; Size Code: 0402; Min Operating Temperature: -55°C; Max Operating Temperature: 155°C; Package Quantity: 10; Packaging: Tape and Reel; Resistor Type: Thick Film; Number of Terminations: 2; Termination: SMD/SMT; Max Power Dissipation: 63mW; Temperature Coefficient: 100ppm/°C; Voltage Rating (DC): 50V; Features: Automotive AEC-Q200; Series: CRCW; Technology: THICK FILM; Construction: Rectangular; Length: 1mm; Width: 0.5mm; Height: 0.35mm; Depth: 0.5mm; Radiation Hardening: No; REACH SVHC: Unknown; Military Standard: Not; Lead Free: Lead Free; RoHS Compliant: Yes; ComponentLink1URL: https://datasheet.ciiva.com/11818/0900766b80d98824-11818070.pdf?src-supplier=RSComponents; ComponentLink1Description: https://datasheet.ciiva.com/11818/0900766b80d98824-11818070.pdf?src-supplier=RSComponents; ComponentLink2URL: https://datasheet.ciiva.com/2463/dcrcwe3-2463814.pdf?src-supplier=Digi-Key; ComponentLink2Description: https://datasheet.ciiva.com/2463/dcrcwe3-2463814.pdf?src-supplier=Digi-Key; ComponentLink3URL: https://datasheet.ciiva.com/2463/dcrcwe3-2463815.pdf?src-supplier=Digi-Key; Tolerance: 1%; Resistance Tolerance: 1%; ComponentLink3Description: https://datasheet.ciiva.com/7830/aoa0000ce2-783072; ComponentLink4URL: https://datasheet.ciiva.com/7830/426256-7830974.pd; ComponentLink4Description: https://datasheet.ciiva.com/7830/426256-7830974.pd; ComponentLink5URL: https://datasheet.ciiva.com/43467/1678782-43467480; ComponentLink5Description: https://datasheet.ciiva.com/43467/1678782-43467480; ComponentLink6URL: https://datasheet.ciiva.com/22723/426256-22723902.; ComponentLink6Description: https://datasheet.ciiva.com/22723/426256-22723902.; ComponentLink7URL: https://datasheet.ciiva.com/16778/70260748-1677805; ComponentLink7Description: https://datasheet.ciiva.com/16778/70260748-1677805; ComponentLink8URL: https://datasheet.ciiva.com/16784/70260748-1678419; ComponentLink8Description: https://datasheet.ciiva.com/16784/70260748-1678419; ComponentLink9URL: https://datasheet.ciiva.com/9186/aoa0000ce2-918668; ComponentLink9Description: https://datasheet.ciiva.com/9186/aoa0000ce2-918668; ComponentLink10URL: https://datasheet.ciiva.com/16440/aoa0000ce2-16440; ComponentLink10Description: https://datasheet.ciiva.com/16440/aoa0000ce2-16440; ComponentLink11URL: https://datasheet.ciiva.com/48531/aoa0000ce2-48531; ComponentLink11Description: https://datasheet.ciiva.com/48531/aoa0000ce2-48531; ComponentLink12URL: https://datasheet.ciiva.com/30245/aoa0000ce2-30245; ComponentLink12Description: https://datasheet.ciiva.com/30245/aoa0000ce2-30245
footprint IPC_A
footprint IPC_B
footprint IPC_C
footprint MFG
pins: 1, 2
1 alternate drawing of the same symbol

## CRCW04020000Z0EDHP
designator R?, comment 0 Ω  (value not drawn)
CRCW Series 0402 0.2 W 0 Ohm Jumper Surface Mount Thick Film Chip Resistor; Manufacturer: Vishay Dale; AMBIQ PN: CRCW04020000Z0EDHP; Resistance: 0R; Power Rating: 200mW; Voltage Rating: 50V; Max Power Dissipation: 125mW; Temperature Coefficient: 0ppm/°C; Supplier 1: Newark; Supplier Part Number 1: 68R2982; Manufacturer Part Number: CRCW04020000Z0EDHP; RoHS: Yes; Category: Chip SMD Resistors; Stock 1: 60000; Pricing 1: 1=0.01500, 10000=0.01500 (USD); Mount: Surface Mount; Case/Package: 0402; Weight: 2.3E-05oz; Case Code (Metric): 1005; Case Code (Imperial): 0402; Contact Plating: Tin; Size Code: 0402; Min Operating Temperature: -55°C; Max Operating Temperature: 155°C; Package Quantity: 1; Packaging: Tape and Reel; Resistor Type: Thick Film; Number of Terminations: 2; Termination: SMD/SMT; Voltage Rating (DC): 50V; Features: Automotive AEC-Q200; Series: CRCW-HP; Technology: THICK FILM; Construction: Rectangular; Length: 1mm; Width: 0.02inch; Height: 0.3mm; Depth: 0.5mm; Radiation Hardening: No; REACH SVHC: Unknown; Military Standard: Not; Lead Free: Lead Free; RoHS Compliant: Yes; ComponentLink1URL: https://datasheet.ciiva.com/7725/crcwhpe3-7725758.pdf?src-supplier=Element14; ComponentLink1Description: https://datasheet.ciiva.com/7725/crcwhpe3-7725758.pdf?src-supplier=Element14; ComponentLink2URL: https://datasheet.ciiva.com/28621/1912814-28621324.pdf?src-supplier=Element14; ComponentLink2Description: https://datasheet.ciiva.com/28621/1912814-28621324.pdf?src-supplier=Element14; ComponentLink3URL: https://datasheet.ciiva.com/2470/crcwhpe3-2470556.pdf?src-supplier=Digi-Key
footprint IPC_A
footprint IPC_B
footprint IPC_C
footprint MFG
pins: 1, 2
1 alternate drawing of the same symbol

## DFE18SAN1R0ME0L
designator L?, comment 1uH
NONE; Manufacturer: Murata; AMBIQ PN: DFE18SAN1R0ME0L; Core Material: Metal; Tolerance: 20%; DC Resistance (DCR): 144mR; Test Frequency: 1MHz; Shielding: Shielded; Current Rating: 1.6A; Saturation Current: 2A; Supplier 1: Arrow Electronics; Supplier Part Number 1: DFE18SAN1R0ME0L; Manufacturer Part Number: DFE18SAN1R0ME0L; RoHS: Yes; Category: Fixed Inductors; Stock 1: 21000; Pricing 1: 3000=0.16860 (USD); RoHS Compliant: Yes; ComponentLink1URL: http://www.farnell.com/datasheets/2616752.pdf?src-supplier=Farnell; ComponentLink1Description: http://www.farnell.com/datasheets/2616752.pdf?src-supplier=Farnell; Mount: Surface Mount; Case/Package: 0603; Case Code (Metric): 1608; Case Code (Imperial): 0603; Min Operating Temperature: -40°C; Max Operating Temperature: 85°C; Packaging: Cut Tape; ComponentLink2URL: http://search.murata.co.jp/Ceramy/image/img/P02/JETE243A-0037.pdf?src-supplier=Digi-Key; ComponentLink2Description: http://search.murata.co.jp/Ceramy/image/img/P02/JETE243A-0037.pdf?src-supplier=Digi-Key; ComponentLink3URL: http://www.farnell.com/datasheets/2616752.pdf?src-supplier=Newark; ComponentLink3Description: http://www.farnell.com/datasheets/2616752.pdf?src-supplier=Newark; ComponentLink4URL: http://www.farnell.com/datasheets/2616752.pdf?src-supplier=Element14; ComponentLink4Description: http://www.farnell.com/datasheets/2616752.pdf?src-supplier=Element14; Inductance: 1uH
footprint IPC_A
footprint IPC_B
footprint IPC_C
footprint MFG
pins: 1, 2